# EAGLE library part ISO174 (library burr-brown)
Isolated Amplifier
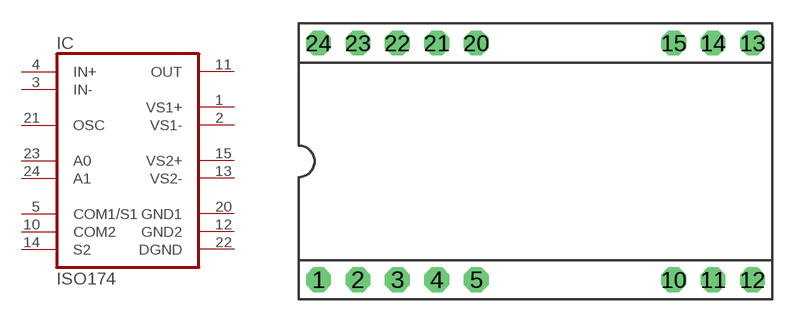
[diagram p55: symbol with the pads of DIL24/16; footprint DIL24/16]

Designator prefix IC

## ISO174P (OC_FARNELL: unknown; OC_NEWARK: unknown)  [DIL24/16]
1  VS1+  pwr
2  VS1-  pwr
3  IN-  in
4  IN+  in
5  COM1/S1  pas
10  COM2  pas
11  OUT  out
12  GND2  pwr
13  VS2-  pwr
14  S2  pas
15  VS2+  pwr
20  GND1  pwr
21  OSC  in
22  DGND  pwr
23  A0  pas
24  A1  pas

## Footprint DIL24/16 (pad centres in mm)
Dual In Line
drill 0.813 pad 1.6 octagon: 1 -13.97,-7.62; 2 -11.43,-7.62; 3 -8.89,-7.62; 4 -6.35,-7.62; 5 -3.81,-7.62; 10 8.89,-7.62; 11 11.43,-7.62; 12 13.97,-7.62; 13 13.97,7.62; 14 11.43,7.62; 15 8.89,7.62; 20 -3.81,7.62; 21 -6.35,7.62; 22 -8.89,7.62; 23 -11.43,7.62; 24 -13.97,7.62